# Altium footprint library ST-Microelectronics Footprints.PcbLib: 320 footprints (part 12 of 20)
Each footprint in its own frame and in the unit in brackets; x right, y up, seen from the top. Pads: shape width x height; smd on the part's side, far side on the other; paste and mask are expansions set on the pad; w line width, h text height; cw(c..) or ccw(c..) is an arc to the next point about the centre after c.
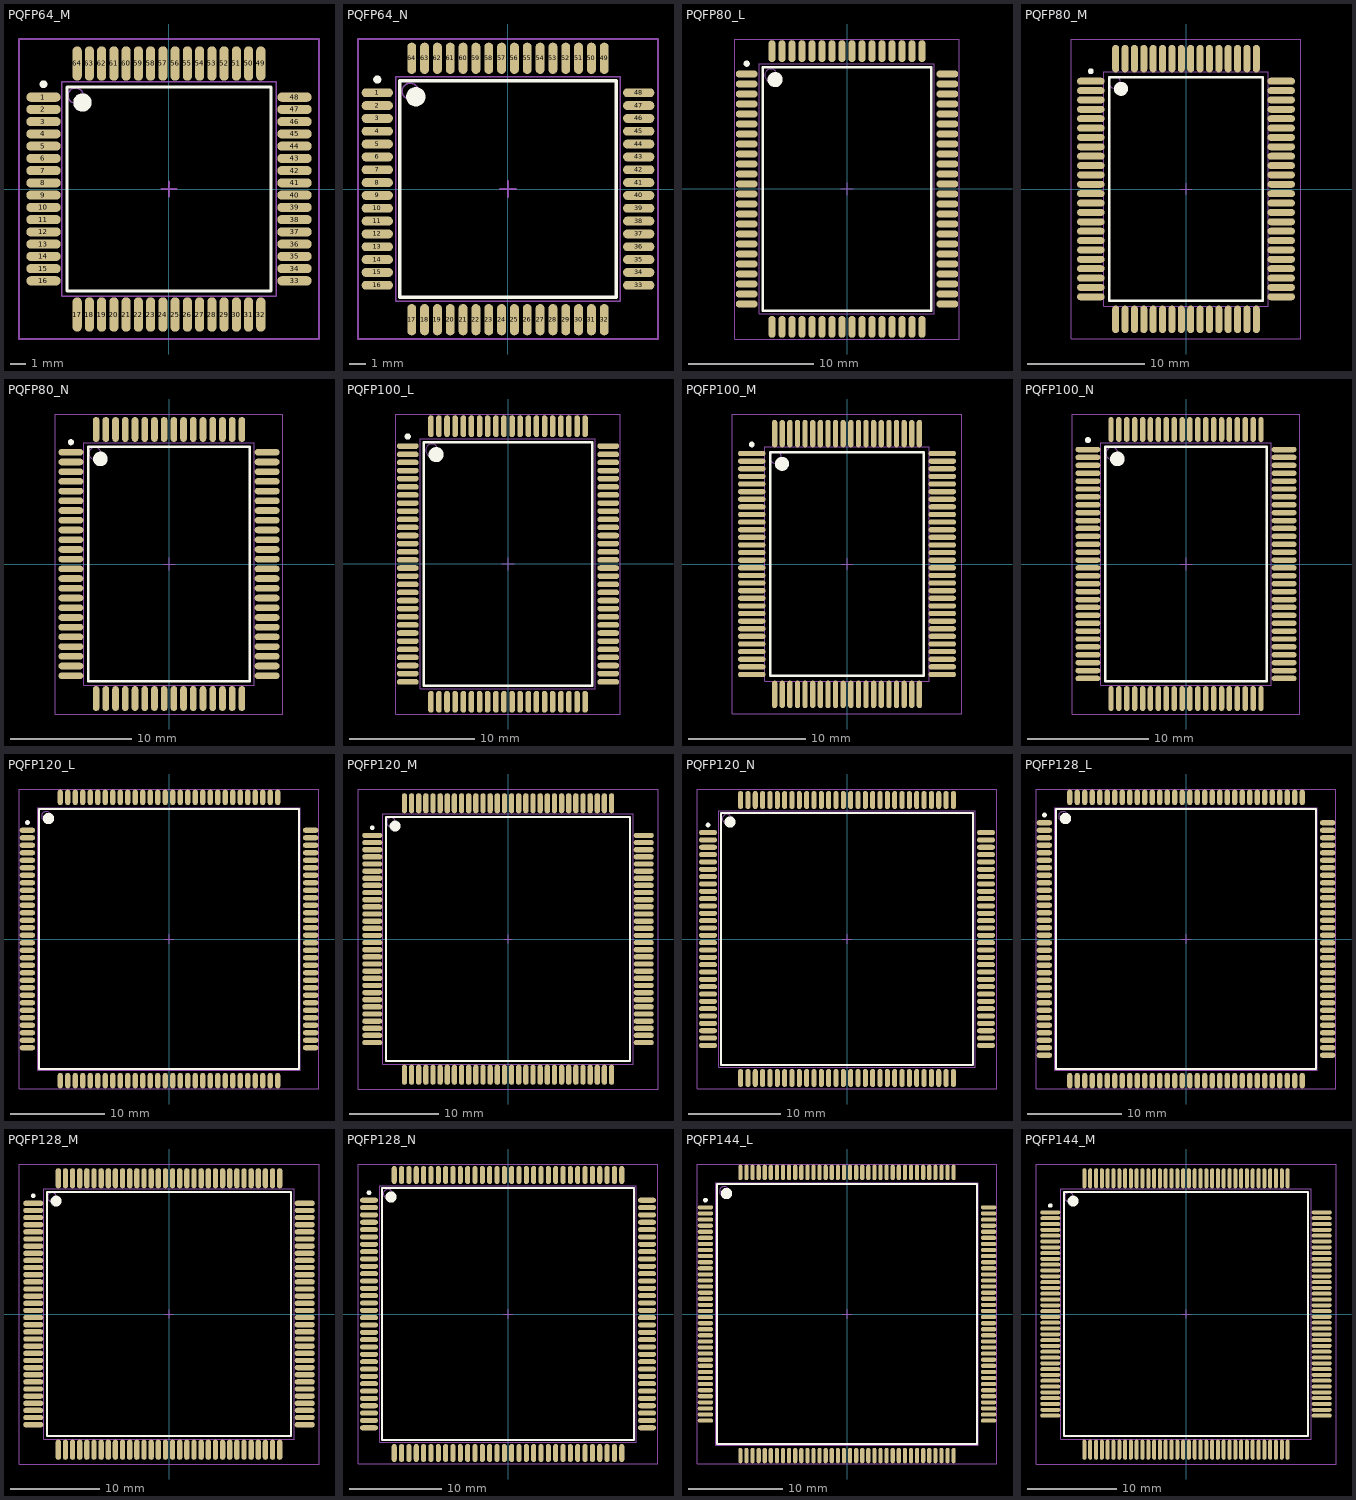
[diagram p11: the footprints below, top view; thin cyan lines are the x and y axes]

## PQFP64_M [mm] "64-Pin Plastic Quad Flat Pack 0.8 mm Pitch, IPC Low Density"
height 3.4
pads (64):
  oval 2.25x0.6 smd: 1(-8.2,6) 2(-8.2,5.2) 3(-8.2,4.4) 4(-8.2,3.6) 5(-8.2,2.8) 6(-8.2,2) 7(-8.2,1.2) 8(-8.2,0.4) 9(-8.2,-0.4) 10(-8.2,-1.2) 11(-8.2,-2) 12(-8.2,-2.8) 13(-8.2,-3.6) 14(-8.2,-4.4) 15(-8.2,-5.2) 16(-8.2,-6) 33(8.2,-6) 34(8.2,-5.2) 35(8.2,-4.4) 36(8.2,-3.6) 37(8.2,-2.8) 38(8.2,-2) 39(8.2,-1.2) 40(8.2,-0.4) 41(8.2,0.4) 42(8.2,1.2) 43(8.2,2) 44(8.2,2.8) 45(8.2,3.6) 46(8.2,4.4) 47(8.2,5.2) 48(8.2,6)
  oval 0.6x2.25 smd: 17(-6,-8.2) 18(-5.2,-8.2) 19(-4.4,-8.2) 20(-3.6,-8.2) 21(-2.8,-8.2) 22(-2,-8.2) 23(-1.2,-8.2) 24(-0.4,-8.2) 25(0.4,-8.2) 26(1.2,-8.2) 27(2,-8.2) 28(2.8,-8.2) 29(3.6,-8.2) 30(4.4,-8.2) 31(5.2,-8.2) 32(6,-8.2) 49(6,8.2) 50(5.2,8.2) 51(4.4,8.2) 52(3.6,8.2) 53(2.8,8.2) 54(2,8.2) 55(1.2,8.2) 56(0.4,8.2) 57(-0.4,8.2) 58(-1.2,8.2) 59(-2,8.2) 60(-2.8,8.2) 61(-3.6,8.2) 62(-4.4,8.2) 63(-5.2,8.2) 64(-6,8.2)
Top Overlay:
  circle w0.6: c-5.65,5.65 r0.3
  circle w0.25: c-8.2,6.85 r0.125
  lines w0.2: -6.65,-6.65 6.65,-6.65 6.65,6.65 -6.65,6.65 -6.65,-6.65
Mechanical 13:
  circle w0.1: c-6.1,6.1 r0.5
  lines w0.1: -7,-7 7,-7 7,7 -7,7 -7,-7
Mechanical 15:
  lines w0.1: -0.5,0 0.5,0 ; 0,-0.5 0,0.5 ; -9.8,-9.8 9.8,-9.8 9.8,9.8 -9.8,9.8 -9.8,-9.8
3D body: height 3.4, standoff 0, extent -7,-7 7,7

## PQFP64_N [mm] "64-Pin Plastic Quad Flat Pack 0.8 mm Pitch, IPC Medium Density"
height 3.4
pads (64):
  oval 1.95x0.55 smd: 1(-8.15,6) 2(-8.15,5.2) 3(-8.15,4.4) 4(-8.15,3.6) 5(-8.15,2.8) 6(-8.15,2) 7(-8.15,1.2) 8(-8.15,0.4) 9(-8.15,-0.4) 10(-8.15,-1.2) 11(-8.15,-2) 12(-8.15,-2.8) 13(-8.15,-3.6) 14(-8.15,-4.4) 15(-8.15,-5.2) 16(-8.15,-6) 33(8.15,-6) 34(8.15,-5.2) 35(8.15,-4.4) 36(8.15,-3.6) 37(8.15,-2.8) 38(8.15,-2) 39(8.15,-1.2) 40(8.15,-0.4) 41(8.15,0.4) 42(8.15,1.2) 43(8.15,2) 44(8.15,2.8) 45(8.15,3.6) 46(8.15,4.4) 47(8.15,5.2) 48(8.15,6)
  oval 0.55x1.95 smd: 17(-6,-8.15) 18(-5.2,-8.15) 19(-4.4,-8.15) 20(-3.6,-8.15) 21(-2.8,-8.15) 22(-2,-8.15) 23(-1.2,-8.15) 24(-0.4,-8.15) 25(0.4,-8.15) 26(1.2,-8.15) 27(2,-8.15) 28(2.8,-8.15) 29(3.6,-8.15) 30(4.4,-8.15) 31(5.2,-8.15) 32(6,-8.15) 49(6,8.15) 50(5.2,8.15) 51(4.4,8.15) 52(3.6,8.15) 53(2.8,8.15) 54(2,8.15) 55(1.2,8.15) 56(0.4,8.15) 57(-0.4,8.15) 58(-1.2,8.15) 59(-2,8.15) 60(-2.8,8.15) 61(-3.6,8.15) 62(-4.4,8.15) 63(-5.2,8.15) 64(-6,8.15)
Top Overlay:
  circle w0.6: c-5.75,5.75 r0.3
  circle w0.25: c-8.15,6.825 r0.125
  lines w0.2: -6.75,-6.75 6.75,-6.75 6.75,6.75 -6.75,6.75 -6.75,-6.75
Mechanical 13:
  circle w0.1: c-6.1,6.1 r0.5
  lines w0.1: -7,-7 7,-7 7,7 -7,7 -7,-7
Mechanical 15:
  lines w0.1: -0.5,0 0.5,0 ; 0,-0.5 0,0.5 ; -9.35,-9.35 9.35,-9.35 9.35,9.35 -9.35,9.35 -9.35,-9.35
3D body: height 3.4, standoff 0, extent -7,-7 7,7

## PQFP80_L [mm] "80-Pin Plastic Quad Flat Pack Rectangular 0.8 mm Pitch, IPC High Density"
height 3.4
pads (80):
  oval 1.75x0.55 smd: 1(-8.025,9.2) 2(-8.025,8.4) 3(-8.025,7.6) 4(-8.025,6.8) 5(-8.025,6) 6(-8.025,5.2) 7(-8.025,4.4) 8(-8.025,3.6) 9(-8.025,2.8) 10(-8.025,2) 11(-8.025,1.2) 12(-8.025,0.4) 13(-8.025,-0.4) 14(-8.025,-1.2) 15(-8.025,-2) 16(-8.025,-2.8) 17(-8.025,-3.6) 18(-8.025,-4.4) 19(-8.025,-5.2) 20(-8.025,-6) 21(-8.025,-6.8) 22(-8.025,-7.6) 23(-8.025,-8.4) 24(-8.025,-9.2) 41(8.025,-9.2) 42(8.025,-8.4) 43(8.025,-7.6) 44(8.025,-6.8) 45(8.025,-6) 46(8.025,-5.2) 47(8.025,-4.4) 48(8.025,-3.6) 49(8.025,-2.8) 50(8.025,-2) 51(8.025,-1.2) 52(8.025,-0.4) 53(8.025,0.4) 54(8.025,1.2) 55(8.025,2) 56(8.025,2.8) 57(8.025,3.6) 58(8.025,4.4) 59(8.025,5.2) 60(8.025,6) 61(8.025,6.8) 62(8.025,7.6) 63(8.025,8.4) 64(8.025,9.2)
  oval 0.55x1.75 smd: 25(-6,-11.025) 26(-5.2,-11.025) 27(-4.4,-11.025) 28(-3.6,-11.025) 29(-2.8,-11.025) 30(-2,-11.025) 31(-1.2,-11.025) 32(-0.4,-11.025) 33(0.4,-11.025) 34(1.2,-11.025) 35(2,-11.025) 36(2.8,-11.025) 37(3.6,-11.025) 38(4.4,-11.025) 39(5.2,-11.025) 40(6,-11.025) 65(6,11.025) 66(5.2,11.025) 67(4.4,11.025) 68(3.6,11.025) 69(2.8,11.025) 70(2,11.025) 71(1.2,11.025) 72(0.4,11.025) 73(-0.4,11.025) 74(-1.2,11.025) 75(-2,11.025) 76(-2.8,11.025) 77(-3.6,11.025) 78(-4.4,11.025) 79(-5.2,11.025) 80(-6,11.025)
Top Overlay:
  circle w0.6: c-5.75,8.75 r0.3
  circle w0.25: c-8.025,10.025 r0.125
  lines w0.2: -6.75,-9.75 6.75,-9.75 6.75,9.75 -6.75,9.75 -6.75,-9.75
Mechanical 13:
  circle w0.1: c-6.1,9.1 r0.5
  lines w0.1: -7,-10 7,-10 7,10 -7,10 -7,-10
Mechanical 15:
  lines w0.1: -0.5,0 0.5,0 ; 0,-0.5 0,0.5 ; -9,-12 9,-12 9,12 -9,12 -9,-12
3D body: height 3.4, standoff 0, extent -7,-10 7,10

## PQFP80_M [mm] "80-Pin Plastic Quad Flat Pack Rectangular 0.8 mm Pitch, IPC Low Density"
height 3.4
pads (80):
  oval 2.35x0.6 smd: 1(-8.125,9.2) 2(-8.125,8.4) 3(-8.125,7.6) 4(-8.125,6.8) 5(-8.125,6) 6(-8.125,5.2) 7(-8.125,4.4) 8(-8.125,3.6) 9(-8.125,2.8) 10(-8.125,2) 11(-8.125,1.2) 12(-8.125,0.4) 13(-8.125,-0.4) 14(-8.125,-1.2) 15(-8.125,-2) 16(-8.125,-2.8) 17(-8.125,-3.6) 18(-8.125,-4.4) 19(-8.125,-5.2) 20(-8.125,-6) 21(-8.125,-6.8) 22(-8.125,-7.6) 23(-8.125,-8.4) 24(-8.125,-9.2) 41(8.125,-9.2) 42(8.125,-8.4) 43(8.125,-7.6) 44(8.125,-6.8) 45(8.125,-6) 46(8.125,-5.2) 47(8.125,-4.4) 48(8.125,-3.6) 49(8.125,-2.8) 50(8.125,-2) 51(8.125,-1.2) 52(8.125,-0.4) 53(8.125,0.4) 54(8.125,1.2) 55(8.125,2) 56(8.125,2.8) 57(8.125,3.6) 58(8.125,4.4) 59(8.125,5.2) 60(8.125,6) 61(8.125,6.8) 62(8.125,7.6) 63(8.125,8.4) 64(8.125,9.2)
  oval 0.6x2.35 smd: 25(-6,-11.125) 26(-5.2,-11.125) 27(-4.4,-11.125) 28(-3.6,-11.125) 29(-2.8,-11.125) 30(-2,-11.125) 31(-1.2,-11.125) 32(-0.4,-11.125) 33(0.4,-11.125) 34(1.2,-11.125) 35(2,-11.125) 36(2.8,-11.125) 37(3.6,-11.125) 38(4.4,-11.125) 39(5.2,-11.125) 40(6,-11.125) 65(6,11.125) 66(5.2,11.125) 67(4.4,11.125) 68(3.6,11.125) 69(2.8,11.125) 70(2,11.125) 71(1.2,11.125) 72(0.4,11.125) 73(-0.4,11.125) 74(-1.2,11.125) 75(-2,11.125) 76(-2.8,11.125) 77(-3.6,11.125) 78(-4.4,11.125) 79(-5.2,11.125) 80(-6,11.125)
Top Overlay:
  circle w0.6: c-5.55,8.55 r0.3
  circle w0.25: c-8.125,10.05 r0.125
  lines w0.2: -6.55,-9.55 6.55,-9.55 6.55,9.55 -6.55,9.55 -6.55,-9.55
Mechanical 13:
  circle w0.1: c-6.1,9.1 r0.5
  lines w0.1: -7,-10 7,-10 7,10 -7,10 -7,-10
Mechanical 15:
  lines w0.1: -0.5,0 0.5,0 ; 0,-0.5 0,0.5 ; -9.8,-12.8 9.8,-12.8 9.8,12.8 -9.8,12.8 -9.8,-12.8
3D body: height 3.4, standoff 0, extent -7,-10 7,10

## PQFP80_N [mm] "80-Pin Plastic Quad Flat Pack Rectangular 0.8 mm Pitch, IPC Medium Density"
height 3.4
pads (80):
  oval 2.05x0.55 smd: 1(-8.075,9.2) 2(-8.075,8.4) 3(-8.075,7.6) 4(-8.075,6.8) 5(-8.075,6) 6(-8.075,5.2) 7(-8.075,4.4) 8(-8.075,3.6) 9(-8.075,2.8) 10(-8.075,2) 11(-8.075,1.2) 12(-8.075,0.4) 13(-8.075,-0.4) 14(-8.075,-1.2) 15(-8.075,-2) 16(-8.075,-2.8) 17(-8.075,-3.6) 18(-8.075,-4.4) 19(-8.075,-5.2) 20(-8.075,-6) 21(-8.075,-6.8) 22(-8.075,-7.6) 23(-8.075,-8.4) 24(-8.075,-9.2) 41(8.075,-9.2) 42(8.075,-8.4) 43(8.075,-7.6) 44(8.075,-6.8) 45(8.075,-6) 46(8.075,-5.2) 47(8.075,-4.4) 48(8.075,-3.6) 49(8.075,-2.8) 50(8.075,-2) 51(8.075,-1.2) 52(8.075,-0.4) 53(8.075,0.4) 54(8.075,1.2) 55(8.075,2) 56(8.075,2.8) 57(8.075,3.6) 58(8.075,4.4) 59(8.075,5.2) 60(8.075,6) 61(8.075,6.8) 62(8.075,7.6) 63(8.075,8.4) 64(8.075,9.2)
  oval 0.55x2.05 smd: 25(-6,-11.075) 26(-5.2,-11.075) 27(-4.4,-11.075) 28(-3.6,-11.075) 29(-2.8,-11.075) 30(-2,-11.075) 31(-1.2,-11.075) 32(-0.4,-11.075) 33(0.4,-11.075) 34(1.2,-11.075) 35(2,-11.075) 36(2.8,-11.075) 37(3.6,-11.075) 38(4.4,-11.075) 39(5.2,-11.075) 40(6,-11.075) 65(6,11.075) 66(5.2,11.075) 67(4.4,11.075) 68(3.6,11.075) 69(2.8,11.075) 70(2,11.075) 71(1.2,11.075) 72(0.4,11.075) 73(-0.4,11.075) 74(-1.2,11.075) 75(-2,11.075) 76(-2.8,11.075) 77(-3.6,11.075) 78(-4.4,11.075) 79(-5.2,11.075) 80(-6,11.075)
Top Overlay:
  circle w0.6: c-5.65,8.65 r0.3
  circle w0.25: c-8.075,10.025 r0.125
  lines w0.2: -6.65,-9.65 6.65,-9.65 6.65,9.65 -6.65,9.65 -6.65,-9.65
Mechanical 13:
  circle w0.1: c-6.1,9.1 r0.5
  lines w0.1: -7,-10 7,-10 7,10 -7,10 -7,-10
Mechanical 15:
  lines w0.1: -0.5,0 0.5,0 ; 0,-0.5 0,0.5 ; -9.35,-12.35 9.35,-12.35 9.35,12.35 -9.35,12.35 -9.35,-12.35
3D body: height 3.4, standoff 0, extent -7,-10 7,10

## PQFP100_L [mm] "100-Pin Plastic Quad Flat Pack Rectangular 0.65 mm Pitch, IPC High Density"
height 3.4
pads (100):
  oval 1.75x0.45 smd: 1(-8.025,9.425) 2(-8.025,8.775) 3(-8.025,8.125) 4(-8.025,7.475) 5(-8.025,6.825) 6(-8.025,6.175) 7(-8.025,5.525) 8(-8.025,4.875) 9(-8.025,4.225) 10(-8.025,3.575) 11(-8.025,2.925) 12(-8.025,2.275) 13(-8.025,1.625) 14(-8.025,0.975) 15(-8.025,0.325) 16(-8.025,-0.325) 17(-8.025,-0.975) 18(-8.025,-1.625) 19(-8.025,-2.275) 20(-8.025,-2.925) 21(-8.025,-3.575) 22(-8.025,-4.225) 23(-8.025,-4.875) 24(-8.025,-5.525) 25(-8.025,-6.175) 26(-8.025,-6.825) 27(-8.025,-7.475) 28(-8.025,-8.125) 29(-8.025,-8.775) 30(-8.025,-9.425) 51(8.025,-9.425) 52(8.025,-8.775) 53(8.025,-8.125) 54(8.025,-7.475) 55(8.025,-6.825) 56(8.025,-6.175) 57(8.025,-5.525) 58(8.025,-4.875) 59(8.025,-4.225) 60(8.025,-3.575) 61(8.025,-2.925) 62(8.025,-2.275) 63(8.025,-1.625) 64(8.025,-0.975) 65(8.025,-0.325) 66(8.025,0.325) 67(8.025,0.975) 68(8.025,1.625) 69(8.025,2.275) 70(8.025,2.925) 71(8.025,3.575) 72(8.025,4.225) 73(8.025,4.875) 74(8.025,5.525) 75(8.025,6.175) 76(8.025,6.825) 77(8.025,7.475) 78(8.025,8.125) 79(8.025,8.775) 80(8.025,9.425)
  oval 0.45x1.75 smd: 31(-6.175,-11.025) 32(-5.525,-11.025) 33(-4.875,-11.025) 34(-4.225,-11.025) 35(-3.575,-11.025) 36(-2.925,-11.025) 37(-2.275,-11.025) 38(-1.625,-11.025) 39(-0.975,-11.025) 40(-0.325,-11.025) 41(0.325,-11.025) 42(0.975,-11.025) 43(1.625,-11.025) 44(2.275,-11.025) 45(2.925,-11.025) 46(3.575,-11.025) 47(4.225,-11.025) 48(4.875,-11.025) 49(5.525,-11.025) 50(6.175,-11.025) 81(6.175,11.025) 82(5.525,11.025) 83(4.875,11.025) 84(4.225,11.025) 85(3.575,11.025) 86(2.925,11.025) 87(2.275,11.025) 88(1.625,11.025) 89(0.975,11.025) 90(0.325,11.025) 91(-0.325,11.025) 92(-0.975,11.025) 93(-1.625,11.025) 94(-2.275,11.025) 95(-2.925,11.025) 96(-3.575,11.025) 97(-4.225,11.025) 98(-4.875,11.025) 99(-5.525,11.025) 100(-6.175,11.025)
Top Overlay:
  circle w0.6: c-5.75,8.75 r0.3
  circle w0.25: c-8.025,10.2 r0.125
  lines w0.2: -6.75,-9.75 6.75,-9.75 6.75,9.75 -6.75,9.75 -6.75,-9.75
Mechanical 13:
  circle w0.1: c-6.1,9.1 r0.5
  lines w0.1: -7,-10 7,-10 7,10 -7,10 -7,-10
Mechanical 15:
  lines w0.1: -0.5,0 0.5,0 ; 0,-0.5 0,0.5 ; -9,-12 9,-12 9,12 -9,12 -9,-12
3D body: height 3.4, standoff 0, extent -7,-10 7,10

## PQFP100_M [mm] "100-Pin Plastic Quad Flat Pack Rectangular 0.65 mm Pitch, IPC Low Density"
height 3.4
pads (100):
  oval 2.35x0.45 smd: 1(-8.125,9.425) 2(-8.125,8.775) 3(-8.125,8.125) 4(-8.125,7.475) 5(-8.125,6.825) 6(-8.125,6.175) 7(-8.125,5.525) 8(-8.125,4.875) 9(-8.125,4.225) 10(-8.125,3.575) 11(-8.125,2.925) 12(-8.125,2.275) 13(-8.125,1.625) 14(-8.125,0.975) 15(-8.125,0.325) 16(-8.125,-0.325) 17(-8.125,-0.975) 18(-8.125,-1.625) 19(-8.125,-2.275) 20(-8.125,-2.925) 21(-8.125,-3.575) 22(-8.125,-4.225) 23(-8.125,-4.875) 24(-8.125,-5.525) 25(-8.125,-6.175) 26(-8.125,-6.825) 27(-8.125,-7.475) 28(-8.125,-8.125) 29(-8.125,-8.775) 30(-8.125,-9.425) 51(8.125,-9.425) 52(8.125,-8.775) 53(8.125,-8.125) 54(8.125,-7.475) 55(8.125,-6.825) 56(8.125,-6.175) 57(8.125,-5.525) 58(8.125,-4.875) 59(8.125,-4.225) 60(8.125,-3.575) 61(8.125,-2.925) 62(8.125,-2.275) 63(8.125,-1.625) 64(8.125,-0.975) 65(8.125,-0.325) 66(8.125,0.325) 67(8.125,0.975) 68(8.125,1.625) 69(8.125,2.275) 70(8.125,2.925) 71(8.125,3.575) 72(8.125,4.225) 73(8.125,4.875) 74(8.125,5.525) 75(8.125,6.175) 76(8.125,6.825) 77(8.125,7.475) 78(8.125,8.125) 79(8.125,8.775) 80(8.125,9.425)
  oval 0.45x2.35 smd: 31(-6.175,-11.125) 32(-5.525,-11.125) 33(-4.875,-11.125) 34(-4.225,-11.125) 35(-3.575,-11.125) 36(-2.925,-11.125) 37(-2.275,-11.125) 38(-1.625,-11.125) 39(-0.975,-11.125) 40(-0.325,-11.125) 41(0.325,-11.125) 42(0.975,-11.125) 43(1.625,-11.125) 44(2.275,-11.125) 45(2.925,-11.125) 46(3.575,-11.125) 47(4.225,-11.125) 48(4.875,-11.125) 49(5.525,-11.125) 50(6.175,-11.125) 81(6.175,11.125) 82(5.525,11.125) 83(4.875,11.125) 84(4.225,11.125) 85(3.575,11.125) 86(2.925,11.125) 87(2.275,11.125) 88(1.625,11.125) 89(0.975,11.125) 90(0.325,11.125) 91(-0.325,11.125) 92(-0.975,11.125) 93(-1.625,11.125) 94(-2.275,11.125) 95(-2.925,11.125) 96(-3.575,11.125) 97(-4.225,11.125) 98(-4.875,11.125) 99(-5.525,11.125) 100(-6.175,11.125)
Top Overlay:
  circle w0.6: c-5.55,8.55 r0.3
  circle w0.25: c-8.125,10.2 r0.125
  lines w0.2: -6.55,-9.55 6.55,-9.55 6.55,9.55 -6.55,9.55 -6.55,-9.55
Mechanical 13:
  circle w0.1: c-6.1,9.1 r0.5
  lines w0.1: -7,-10 7,-10 7,10 -7,10 -7,-10
Mechanical 15:
  lines w0.1: -0.5,0 0.5,0 ; 0,-0.5 0,0.5 ; -9.8,-12.8 9.8,-12.8 9.8,12.8 -9.8,12.8 -9.8,-12.8
3D body: height 3.4, standoff 0, extent -7,-10 7,10

## PQFP100_N [mm] "100-Pin Plastic Quad Flat Pack Rectangular 0.65 mm Pitch, IPC Medium Density"
height 3.4
pads (100):
  oval 2.05x0.45 smd: 1(-8.075,9.425) 2(-8.075,8.775) 3(-8.075,8.125) 4(-8.075,7.475) 5(-8.075,6.825) 6(-8.075,6.175) 7(-8.075,5.525) 8(-8.075,4.875) 9(-8.075,4.225) 10(-8.075,3.575) 11(-8.075,2.925) 12(-8.075,2.275) 13(-8.075,1.625) 14(-8.075,0.975) 15(-8.075,0.325) 16(-8.075,-0.325) 17(-8.075,-0.975) 18(-8.075,-1.625) 19(-8.075,-2.275) 20(-8.075,-2.925) 21(-8.075,-3.575) 22(-8.075,-4.225) 23(-8.075,-4.875) 24(-8.075,-5.525) 25(-8.075,-6.175) 26(-8.075,-6.825) 27(-8.075,-7.475) 28(-8.075,-8.125) 29(-8.075,-8.775) 30(-8.075,-9.425) 51(8.075,-9.425) 52(8.075,-8.775) 53(8.075,-8.125) 54(8.075,-7.475) 55(8.075,-6.825) 56(8.075,-6.175) 57(8.075,-5.525) 58(8.075,-4.875) 59(8.075,-4.225) 60(8.075,-3.575) 61(8.075,-2.925) 62(8.075,-2.275) 63(8.075,-1.625) 64(8.075,-0.975) 65(8.075,-0.325) 66(8.075,0.325) 67(8.075,0.975) 68(8.075,1.625) 69(8.075,2.275) 70(8.075,2.925) 71(8.075,3.575) 72(8.075,4.225) 73(8.075,4.875) 74(8.075,5.525) 75(8.075,6.175) 76(8.075,6.825) 77(8.075,7.475) 78(8.075,8.125) 79(8.075,8.775) 80(8.075,9.425)
  oval 0.45x2.05 smd: 31(-6.175,-11.075) 32(-5.525,-11.075) 33(-4.875,-11.075) 34(-4.225,-11.075) 35(-3.575,-11.075) 36(-2.925,-11.075) 37(-2.275,-11.075) 38(-1.625,-11.075) 39(-0.975,-11.075) 40(-0.325,-11.075) 41(0.325,-11.075) 42(0.975,-11.075) 43(1.625,-11.075) 44(2.275,-11.075) 45(2.925,-11.075) 46(3.575,-11.075) 47(4.225,-11.075) 48(4.875,-11.075) 49(5.525,-11.075) 50(6.175,-11.075) 81(6.175,11.075) 82(5.525,11.075) 83(4.875,11.075) 84(4.225,11.075) 85(3.575,11.075) 86(2.925,11.075) 87(2.275,11.075) 88(1.625,11.075) 89(0.975,11.075) 90(0.325,11.075) 91(-0.325,11.075) 92(-0.975,11.075) 93(-1.625,11.075) 94(-2.275,11.075) 95(-2.925,11.075) 96(-3.575,11.075) 97(-4.225,11.075) 98(-4.875,11.075) 99(-5.525,11.075) 100(-6.175,11.075)
Top Overlay:
  circle w0.6: c-5.65,8.65 r0.3
  circle w0.25: c-8.075,10.2 r0.125
  lines w0.2: -6.65,-9.65 6.65,-9.65 6.65,9.65 -6.65,9.65 -6.65,-9.65
Mechanical 13:
  circle w0.1: c-6.1,9.1 r0.5
  lines w0.1: -7,-10 7,-10 7,10 -7,10 -7,-10
Mechanical 15:
  lines w0.1: -0.5,0 0.5,0 ; 0,-0.5 0,0.5 ; -9.35,-12.35 9.35,-12.35 9.35,12.35 -9.35,12.35 -9.35,-12.35
3D body: height 3.4, standoff 0, extent -7,-10 7,10

## PQFP120_L [mm] "120-Pin Plastic Quad Flat Pack 0.8 mm Pitch, IPC High Density"
height 4.07
pads (120):
  oval 1.65x0.55 smd: 1(-15.1,11.6) 2(-15.1,10.8) 3(-15.1,10) 4(-15.1,9.2) 5(-15.1,8.4) 6(-15.1,7.6) 7(-15.1,6.8) 8(-15.1,6) 9(-15.1,5.2) 10(-15.1,4.4) 11(-15.1,3.6) 12(-15.1,2.8) 13(-15.1,2) 14(-15.1,1.2) 15(-15.1,0.4) 16(-15.1,-0.4) 17(-15.1,-1.2) 18(-15.1,-2) 19(-15.1,-2.8) 20(-15.1,-3.6) 21(-15.1,-4.4) 22(-15.1,-5.2) 23(-15.1,-6) 24(-15.1,-6.8) 25(-15.1,-7.6) 26(-15.1,-8.4) 27(-15.1,-9.2) 28(-15.1,-10) 29(-15.1,-10.8) 30(-15.1,-11.6) 61(15.1,-11.6) 62(15.1,-10.8) 63(15.1,-10) 64(15.1,-9.2) 65(15.1,-8.4) 66(15.1,-7.6) 67(15.1,-6.8) 68(15.1,-6) 69(15.1,-5.2) 70(15.1,-4.4) 71(15.1,-3.6) 72(15.1,-2.8) 73(15.1,-2) 74(15.1,-1.2) 75(15.1,-0.4) 76(15.1,0.4) 77(15.1,1.2) 78(15.1,2) 79(15.1,2.8) 80(15.1,3.6) 81(15.1,4.4) 82(15.1,5.2) 83(15.1,6) 84(15.1,6.8) 85(15.1,7.6) 86(15.1,8.4) 87(15.1,9.2) 88(15.1,10) 89(15.1,10.8) 90(15.1,11.6)
  oval 0.55x1.65 smd: 31(-11.6,-15.1) 32(-10.8,-15.1) 33(-10,-15.1) 34(-9.2,-15.1) 35(-8.4,-15.1) 36(-7.6,-15.1) 37(-6.8,-15.1) 38(-6,-15.1) 39(-5.2,-15.1) 40(-4.4,-15.1) 41(-3.6,-15.1) 42(-2.8,-15.1) 43(-2,-15.1) 44(-1.2,-15.1) 45(-0.4,-15.1) 46(0.4,-15.1) 47(1.2,-15.1) 48(2,-15.1) 49(2.8,-15.1) 50(3.6,-15.1) 51(4.4,-15.1) 52(5.2,-15.1) 53(6,-15.1) 54(6.8,-15.1) 55(7.6,-15.1) 56(8.4,-15.1) 57(9.2,-15.1) 58(10,-15.1) 59(10.8,-15.1) 60(11.6,-15.1) 91(11.6,15.1) 92(10.8,15.1) 93(10,15.1) 94(9.2,15.1) 95(8.4,15.1) 96(7.6,15.1) 97(6.8,15.1) 98(6,15.1) 99(5.2,15.1) 100(4.4,15.1) 101(3.6,15.1) 102(2.8,15.1) 103(2,15.1) 104(1.2,15.1) 105(0.4,15.1) 106(-0.4,15.1) 107(-1.2,15.1) 108(-2,15.1) 109(-2.8,15.1) 110(-3.6,15.1) 111(-4.4,15.1) 112(-5.2,15.1) 113(-6,15.1) 114(-6.8,15.1) 115(-7.6,15.1) 116(-8.4,15.1) 117(-9.2,15.1) 118(-10,15.1) 119(-10.8,15.1) 120(-11.6,15.1)
Top Overlay:
  circle w0.6: c-12.85,12.85 r0.3
  circle w0.25: c-15.1,12.425 r0.125
  lines w0.2: -13.85,-13.85 13.85,-13.85 13.85,13.85 -13.85,13.85 -13.85,-13.85
Mechanical 13:
  circle w0.1: c-13.1,13.1 r0.5
  lines w0.1: -14,-14 14,-14 14,14 -14,14 -14,-14
Mechanical 15:
  lines w0.1: -0.5,0 0.5,0 ; 0,-0.5 0,0.5 ; -16,-16 16,-16 16,16 -16,16 -16,-16
3D body: height 4.07, standoff 0, extent -14,-14 14,14

## PQFP120_M [mm] "120-Pin Plastic Quad Flat Pack 0.8 mm Pitch, IPC Low Density"
height 4.07
pads (120):
  oval 2.25x0.6 smd: 1(-15.2,11.6) 2(-15.2,10.8) 3(-15.2,10) 4(-15.2,9.2) 5(-15.2,8.4) 6(-15.2,7.6) 7(-15.2,6.8) 8(-15.2,6) 9(-15.2,5.2) 10(-15.2,4.4) 11(-15.2,3.6) 12(-15.2,2.8) 13(-15.2,2) 14(-15.2,1.2) 15(-15.2,0.4) 16(-15.2,-0.4) 17(-15.2,-1.2) 18(-15.2,-2) 19(-15.2,-2.8) 20(-15.2,-3.6) 21(-15.2,-4.4) 22(-15.2,-5.2) 23(-15.2,-6) 24(-15.2,-6.8) 25(-15.2,-7.6) 26(-15.2,-8.4) 27(-15.2,-9.2) 28(-15.2,-10) 29(-15.2,-10.8) 30(-15.2,-11.6) 61(15.2,-11.6) 62(15.2,-10.8) 63(15.2,-10) 64(15.2,-9.2) 65(15.2,-8.4) 66(15.2,-7.6) 67(15.2,-6.8) 68(15.2,-6) 69(15.2,-5.2) 70(15.2,-4.4) 71(15.2,-3.6) 72(15.2,-2.8) 73(15.2,-2) 74(15.2,-1.2) 75(15.2,-0.4) 76(15.2,0.4) 77(15.2,1.2) 78(15.2,2) 79(15.2,2.8) 80(15.2,3.6) 81(15.2,4.4) 82(15.2,5.2) 83(15.2,6) 84(15.2,6.8) 85(15.2,7.6) 86(15.2,8.4) 87(15.2,9.2) 88(15.2,10) 89(15.2,10.8) 90(15.2,11.6)
  oval 0.6x2.25 smd: 31(-11.6,-15.2) 32(-10.8,-15.2) 33(-10,-15.2) 34(-9.2,-15.2) 35(-8.4,-15.2) 36(-7.6,-15.2) 37(-6.8,-15.2) 38(-6,-15.2) 39(-5.2,-15.2) 40(-4.4,-15.2) 41(-3.6,-15.2) 42(-2.8,-15.2) 43(-2,-15.2) 44(-1.2,-15.2) 45(-0.4,-15.2) 46(0.4,-15.2) 47(1.2,-15.2) 48(2,-15.2) 49(2.8,-15.2) 50(3.6,-15.2) 51(4.4,-15.2) 52(5.2,-15.2) 53(6,-15.2) 54(6.8,-15.2) 55(7.6,-15.2) 56(8.4,-15.2) 57(9.2,-15.2) 58(10,-15.2) 59(10.8,-15.2) 60(11.6,-15.2) 91(11.6,15.2) 92(10.8,15.2) 93(10,15.2) 94(9.2,15.2) 95(8.4,15.2) 96(7.6,15.2) 97(6.8,15.2) 98(6,15.2) 99(5.2,15.2) 100(4.4,15.2) 101(3.6,15.2) 102(2.8,15.2) 103(2,15.2) 104(1.2,15.2) 105(0.4,15.2) 106(-0.4,15.2) 107(-1.2,15.2) 108(-2,15.2) 109(-2.8,15.2) 110(-3.6,15.2) 111(-4.4,15.2) 112(-5.2,15.2) 113(-6,15.2) 114(-6.8,15.2) 115(-7.6,15.2) 116(-8.4,15.2) 117(-9.2,15.2) 118(-10,15.2) 119(-10.8,15.2) 120(-11.6,15.2)
Top Overlay:
  circle w0.6: c-12.65,12.65 r0.3
  circle w0.25: c-15.2,12.45 r0.125
  lines w0.2: -13.65,-13.65 13.65,-13.65 13.65,13.65 -13.65,13.65 -13.65,-13.65
Mechanical 13:
  circle w0.1: c-13.1,13.1 r0.5
  lines w0.1: -14,-14 14,-14 14,14 -14,14 -14,-14
Mechanical 15:
  lines w0.1: -0.5,0 0.5,0 ; 0,-0.5 0,0.5 ; -16.8,-16.8 16.8,-16.8 16.8,16.8 -16.8,16.8 -16.8,-16.8
3D body: height 4.07, standoff 0, extent -14,-14 14,14

## PQFP120_N [mm] "120-Pin Plastic Quad Flat Pack 0.8 mm Pitch, IPC Medium Density"
height 4.07
pads (120):
  oval 1.95x0.55 smd: 1(-15.15,11.6) 2(-15.15,10.8) 3(-15.15,10) 4(-15.15,9.2) 5(-15.15,8.4) 6(-15.15,7.6) 7(-15.15,6.8) 8(-15.15,6) 9(-15.15,5.2) 10(-15.15,4.4) 11(-15.15,3.6) 12(-15.15,2.8) 13(-15.15,2) 14(-15.15,1.2) 15(-15.15,0.4) 16(-15.15,-0.4) 17(-15.15,-1.2) 18(-15.15,-2) 19(-15.15,-2.8) 20(-15.15,-3.6) 21(-15.15,-4.4) 22(-15.15,-5.2) 23(-15.15,-6) 24(-15.15,-6.8) 25(-15.15,-7.6) 26(-15.15,-8.4) 27(-15.15,-9.2) 28(-15.15,-10) 29(-15.15,-10.8) 30(-15.15,-11.6) 61(15.15,-11.6) 62(15.15,-10.8) 63(15.15,-10) 64(15.15,-9.2) 65(15.15,-8.4) 66(15.15,-7.6) 67(15.15,-6.8) 68(15.15,-6) 69(15.15,-5.2) 70(15.15,-4.4) 71(15.15,-3.6) 72(15.15,-2.8) 73(15.15,-2) 74(15.15,-1.2) 75(15.15,-0.4) 76(15.15,0.4) 77(15.15,1.2) 78(15.15,2) 79(15.15,2.8) 80(15.15,3.6) 81(15.15,4.4) 82(15.15,5.2) 83(15.15,6) 84(15.15,6.8) 85(15.15,7.6) 86(15.15,8.4) 87(15.15,9.2) 88(15.15,10) 89(15.15,10.8) 90(15.15,11.6)
  oval 0.55x1.95 smd: 31(-11.6,-15.15) 32(-10.8,-15.15) 33(-10,-15.15) 34(-9.2,-15.15) 35(-8.4,-15.15) 36(-7.6,-15.15) 37(-6.8,-15.15) 38(-6,-15.15) 39(-5.2,-15.15) 40(-4.4,-15.15) 41(-3.6,-15.15) 42(-2.8,-15.15) 43(-2,-15.15) 44(-1.2,-15.15) 45(-0.4,-15.15) 46(0.4,-15.15) 47(1.2,-15.15) 48(2,-15.15) 49(2.8,-15.15) 50(3.6,-15.15) 51(4.4,-15.15) 52(5.2,-15.15) 53(6,-15.15) 54(6.8,-15.15) 55(7.6,-15.15) 56(8.4,-15.15) 57(9.2,-15.15) 58(10,-15.15) 59(10.8,-15.15) 60(11.6,-15.15) 91(11.6,15.15) 92(10.8,15.15) 93(10,15.15) 94(9.2,15.15) 95(8.4,15.15) 96(7.6,15.15) 97(6.8,15.15) 98(6,15.15) 99(5.2,15.15) 100(4.4,15.15) 101(3.6,15.15) 102(2.8,15.15) 103(2,15.15) 104(1.2,15.15) 105(0.4,15.15) 106(-0.4,15.15) 107(-1.2,15.15) 108(-2,15.15) 109(-2.8,15.15) 110(-3.6,15.15) 111(-4.4,15.15) 112(-5.2,15.15) 113(-6,15.15) 114(-6.8,15.15) 115(-7.6,15.15) 116(-8.4,15.15) 117(-9.2,15.15) 118(-10,15.15) 119(-10.8,15.15) 120(-11.6,15.15)
Top Overlay:
  circle w0.6: c-12.75,12.75 r0.3
  circle w0.25: c-15.15,12.425 r0.125
  lines w0.2: -13.75,-13.75 13.75,-13.75 13.75,13.75 -13.75,13.75 -13.75,-13.75
Mechanical 13:
  circle w0.1: c-13.1,13.1 r0.5
  lines w0.1: -14,-14 14,-14 14,14 -14,14 -14,-14
Mechanical 15:
  lines w0.1: -0.5,0 0.5,0 ; 0,-0.5 0,0.5 ; -16.35,-16.35 16.35,-16.35 16.35,16.35 -16.35,16.35 -16.35,-16.35
3D body: height 4.07, standoff 0, extent -14,-14 14,14

## PQFP128_L [mm] "128-Pin Plastic Quad Flat Pack 0.8 mm Pitch, IPC High Density"
height 4.07
pads (128):
  oval 1.65x0.55 smd: 1(-15.1,12.4) 2(-15.1,11.6) 3(-15.1,10.8) 4(-15.1,10) 5(-15.1,9.2) 6(-15.1,8.4) 7(-15.1,7.6) 8(-15.1,6.8) 9(-15.1,6) 10(-15.1,5.2) 11(-15.1,4.4) 12(-15.1,3.6) 13(-15.1,2.8) 14(-15.1,2) 15(-15.1,1.2) 16(-15.1,0.4) 17(-15.1,-0.4) 18(-15.1,-1.2) 19(-15.1,-2) 20(-15.1,-2.8) 21(-15.1,-3.6) 22(-15.1,-4.4) 23(-15.1,-5.2) 24(-15.1,-6) 25(-15.1,-6.8) 26(-15.1,-7.6) 27(-15.1,-8.4) 28(-15.1,-9.2) 29(-15.1,-10) 30(-15.1,-10.8) 31(-15.1,-11.6) 32(-15.1,-12.4) 65(15.1,-12.4) 66(15.1,-11.6) 67(15.1,-10.8) 68(15.1,-10) 69(15.1,-9.2) 70(15.1,-8.4) 71(15.1,-7.6) 72(15.1,-6.8) 73(15.1,-6) 74(15.1,-5.2) 75(15.1,-4.4) 76(15.1,-3.6) 77(15.1,-2.8) 78(15.1,-2) 79(15.1,-1.2) 80(15.1,-0.4) 81(15.1,0.4) 82(15.1,1.2) 83(15.1,2) 84(15.1,2.8) 85(15.1,3.6) 86(15.1,4.4) 87(15.1,5.2) 88(15.1,6) 89(15.1,6.8) 90(15.1,7.6) 91(15.1,8.4) 92(15.1,9.2) 93(15.1,10) 94(15.1,10.8) 95(15.1,11.6) 96(15.1,12.4)
  oval 0.55x1.65 smd: 33(-12.4,-15.1) 34(-11.6,-15.1) 35(-10.8,-15.1) 36(-10,-15.1) 37(-9.2,-15.1) 38(-8.4,-15.1) 39(-7.6,-15.1) 40(-6.8,-15.1) 41(-6,-15.1) 42(-5.2,-15.1) 43(-4.4,-15.1) 44(-3.6,-15.1) 45(-2.8,-15.1) 46(-2,-15.1) 47(-1.2,-15.1) 48(-0.4,-15.1) 49(0.4,-15.1) 50(1.2,-15.1) 51(2,-15.1) 52(2.8,-15.1) 53(3.6,-15.1) 54(4.4,-15.1) 55(5.2,-15.1) 56(6,-15.1) 57(6.8,-15.1) 58(7.6,-15.1) 59(8.4,-15.1) 60(9.2,-15.1) 61(10,-15.1) 62(10.8,-15.1) 63(11.6,-15.1) 64(12.4,-15.1) 97(12.4,15.1) 98(11.6,15.1) 99(10.8,15.1) 100(10,15.1) 101(9.2,15.1) 102(8.4,15.1) 103(7.6,15.1) 104(6.8,15.1) 105(6,15.1) 106(5.2,15.1) 107(4.4,15.1) 108(3.6,15.1) 109(2.8,15.1) 110(2,15.1) 111(1.2,15.1) 112(0.4,15.1) 113(-0.4,15.1) 114(-1.2,15.1) 115(-2,15.1) 116(-2.8,15.1) 117(-3.6,15.1) 118(-4.4,15.1) 119(-5.2,15.1) 120(-6,15.1) 121(-6.8,15.1) 122(-7.6,15.1) 123(-8.4,15.1) 124(-9.2,15.1) 125(-10,15.1) 126(-10.8,15.1) 127(-11.6,15.1) 128(-12.4,15.1)
Top Overlay:
  circle w0.6: c-12.85,12.85 r0.3
  circle w0.25: c-15.1,13.225 r0.125
  lines w0.2: -13.85,-13.85 13.85,-13.85 13.85,13.85 -13.85,13.85 -13.85,-13.85
Mechanical 13:
  circle w0.1: c-13.1,13.1 r0.5
  lines w0.1: -14,-14 14,-14 14,14 -14,14 -14,-14
Mechanical 15:
  lines w0.1: -0.5,0 0.5,0 ; 0,-0.5 0,0.5 ; -16,-16 16,-16 16,16 -16,16 -16,-16
3D body: height 4.07, standoff 0, extent -14,-14 14,14

## PQFP128_M [mm] "128-Pin Plastic Quad Flat Pack 0.8 mm Pitch, IPC Low Density"
height 4.07
pads (128):
  oval 2.25x0.6 smd: 1(-15.2,12.4) 2(-15.2,11.6) 3(-15.2,10.8) 4(-15.2,10) 5(-15.2,9.2) 6(-15.2,8.4) 7(-15.2,7.6) 8(-15.2,6.8) 9(-15.2,6) 10(-15.2,5.2) 11(-15.2,4.4) 12(-15.2,3.6) 13(-15.2,2.8) 14(-15.2,2) 15(-15.2,1.2) 16(-15.2,0.4) 17(-15.2,-0.4) 18(-15.2,-1.2) 19(-15.2,-2) 20(-15.2,-2.8) 21(-15.2,-3.6) 22(-15.2,-4.4) 23(-15.2,-5.2) 24(-15.2,-6) 25(-15.2,-6.8) 26(-15.2,-7.6) 27(-15.2,-8.4) 28(-15.2,-9.2) 29(-15.2,-10) 30(-15.2,-10.8) 31(-15.2,-11.6) 32(-15.2,-12.4) 65(15.2,-12.4) 66(15.2,-11.6) 67(15.2,-10.8) 68(15.2,-10) 69(15.2,-9.2) 70(15.2,-8.4) 71(15.2,-7.6) 72(15.2,-6.8) 73(15.2,-6) 74(15.2,-5.2) 75(15.2,-4.4) 76(15.2,-3.6) 77(15.2,-2.8) 78(15.2,-2) 79(15.2,-1.2) 80(15.2,-0.4) 81(15.2,0.4) 82(15.2,1.2) 83(15.2,2) 84(15.2,2.8) 85(15.2,3.6) 86(15.2,4.4) 87(15.2,5.2) 88(15.2,6) 89(15.2,6.8) 90(15.2,7.6) 91(15.2,8.4) 92(15.2,9.2) 93(15.2,10) 94(15.2,10.8) 95(15.2,11.6) 96(15.2,12.4)
  oval 0.6x2.25 smd: 33(-12.4,-15.2) 34(-11.6,-15.2) 35(-10.8,-15.2) 36(-10,-15.2) 37(-9.2,-15.2) 38(-8.4,-15.2) 39(-7.6,-15.2) 40(-6.8,-15.2) 41(-6,-15.2) 42(-5.2,-15.2) 43(-4.4,-15.2) 44(-3.6,-15.2) 45(-2.8,-15.2) 46(-2,-15.2) 47(-1.2,-15.2) 48(-0.4,-15.2) 49(0.4,-15.2) 50(1.2,-15.2) 51(2,-15.2) 52(2.8,-15.2) 53(3.6,-15.2) 54(4.4,-15.2) 55(5.2,-15.2) 56(6,-15.2) 57(6.8,-15.2) 58(7.6,-15.2) 59(8.4,-15.2) 60(9.2,-15.2) 61(10,-15.2) 62(10.8,-15.2) 63(11.6,-15.2) 64(12.4,-15.2) 97(12.4,15.2) 98(11.6,15.2) 99(10.8,15.2) 100(10,15.2) 101(9.2,15.2) 102(8.4,15.2) 103(7.6,15.2) 104(6.8,15.2) 105(6,15.2) 106(5.2,15.2) 107(4.4,15.2) 108(3.6,15.2) 109(2.8,15.2) 110(2,15.2) 111(1.2,15.2) 112(0.4,15.2) 113(-0.4,15.2) 114(-1.2,15.2) 115(-2,15.2) 116(-2.8,15.2) 117(-3.6,15.2) 118(-4.4,15.2) 119(-5.2,15.2) 120(-6,15.2) 121(-6.8,15.2) 122(-7.6,15.2) 123(-8.4,15.2) 124(-9.2,15.2) 125(-10,15.2) 126(-10.8,15.2) 127(-11.6,15.2) 128(-12.4,15.2)
Top Overlay:
  circle w0.6: c-12.65,12.65 r0.3
  circle w0.25: c-15.2,13.25 r0.125
  lines w0.2: -13.65,-13.65 13.65,-13.65 13.65,13.65 -13.65,13.65 -13.65,-13.65
Mechanical 13:
  circle w0.1: c-13.1,13.1 r0.5
  lines w0.1: -14,-14 14,-14 14,14 -14,14 -14,-14
Mechanical 15:
  lines w0.1: -0.5,0 0.5,0 ; 0,-0.5 0,0.5 ; -16.8,-16.8 16.8,-16.8 16.8,16.8 -16.8,16.8 -16.8,-16.8
3D body: height 4.07, standoff 0, extent -14,-14 14,14

## PQFP128_N [mm] "128-Pin Plastic Quad Flat Pack 0.8 mm Pitch, IPC Medium Density"
height 4.07
pads (128):
  oval 1.95x0.55 smd: 1(-15.15,12.4) 2(-15.15,11.6) 3(-15.15,10.8) 4(-15.15,10) 5(-15.15,9.2) 6(-15.15,8.4) 7(-15.15,7.6) 8(-15.15,6.8) 9(-15.15,6) 10(-15.15,5.2) 11(-15.15,4.4) 12(-15.15,3.6) 13(-15.15,2.8) 14(-15.15,2) 15(-15.15,1.2) 16(-15.15,0.4) 17(-15.15,-0.4) 18(-15.15,-1.2) 19(-15.15,-2) 20(-15.15,-2.8) 21(-15.15,-3.6) 22(-15.15,-4.4) 23(-15.15,-5.2) 24(-15.15,-6) 25(-15.15,-6.8) 26(-15.15,-7.6) 27(-15.15,-8.4) 28(-15.15,-9.2) 29(-15.15,-10) 30(-15.15,-10.8) 31(-15.15,-11.6) 32(-15.15,-12.4) 65(15.15,-12.4) 66(15.15,-11.6) 67(15.15,-10.8) 68(15.15,-10) 69(15.15,-9.2) 70(15.15,-8.4) 71(15.15,-7.6) 72(15.15,-6.8) 73(15.15,-6) 74(15.15,-5.2) 75(15.15,-4.4) 76(15.15,-3.6) 77(15.15,-2.8) 78(15.15,-2) 79(15.15,-1.2) 80(15.15,-0.4) 81(15.15,0.4) 82(15.15,1.2) 83(15.15,2) 84(15.15,2.8) 85(15.15,3.6) 86(15.15,4.4) 87(15.15,5.2) 88(15.15,6) 89(15.15,6.8) 90(15.15,7.6) 91(15.15,8.4) 92(15.15,9.2) 93(15.15,10) 94(15.15,10.8) 95(15.15,11.6) 96(15.15,12.4)
  oval 0.55x1.95 smd: 33(-12.4,-15.15) 34(-11.6,-15.15) 35(-10.8,-15.15) 36(-10,-15.15) 37(-9.2,-15.15) 38(-8.4,-15.15) 39(-7.6,-15.15) 40(-6.8,-15.15) 41(-6,-15.15) 42(-5.2,-15.15) 43(-4.4,-15.15) 44(-3.6,-15.15) 45(-2.8,-15.15) 46(-2,-15.15) 47(-1.2,-15.15) 48(-0.4,-15.15) 49(0.4,-15.15) 50(1.2,-15.15) 51(2,-15.15) 52(2.8,-15.15) 53(3.6,-15.15) 54(4.4,-15.15) 55(5.2,-15.15) 56(6,-15.15) 57(6.8,-15.15) 58(7.6,-15.15) 59(8.4,-15.15) 60(9.2,-15.15) 61(10,-15.15) 62(10.8,-15.15) 63(11.6,-15.15) 64(12.4,-15.15) 97(12.4,15.15) 98(11.6,15.15) 99(10.8,15.15) 100(10,15.15) 101(9.2,15.15) 102(8.4,15.15) 103(7.6,15.15) 104(6.8,15.15) 105(6,15.15) 106(5.2,15.15) 107(4.4,15.15) 108(3.6,15.15) 109(2.8,15.15) 110(2,15.15) 111(1.2,15.15) 112(0.4,15.15) 113(-0.4,15.15) 114(-1.2,15.15) 115(-2,15.15) 116(-2.8,15.15) 117(-3.6,15.15) 118(-4.4,15.15) 119(-5.2,15.15) 120(-6,15.15) 121(-6.8,15.15) 122(-7.6,15.15) 123(-8.4,15.15) 124(-9.2,15.15) 125(-10,15.15) 126(-10.8,15.15) 127(-11.6,15.15) 128(-12.4,15.15)
Top Overlay:
  circle w0.6: c-12.75,12.75 r0.3
  circle w0.25: c-15.15,13.225 r0.125
  lines w0.2: -13.75,-13.75 13.75,-13.75 13.75,13.75 -13.75,13.75 -13.75,-13.75
Mechanical 13:
  circle w0.1: c-13.1,13.1 r0.5
  lines w0.1: -14,-14 14,-14 14,14 -14,14 -14,-14
Mechanical 15:
  lines w0.1: -0.5,0 0.5,0 ; 0,-0.5 0,0.5 ; -16.35,-16.35 16.35,-16.35 16.35,16.35 -16.35,16.35 -16.35,-16.35
3D body: height 4.07, standoff 0, extent -14,-14 14,14

## PQFP144_L [mm] "144-Pin Quad Flat Pack 0.65 mm Pitch, IPC High Density"
height 4.07
pads (144):
  oval 1.65x0.45 smd: 1(-15.1,11.375) 2(-15.1,10.725) 3(-15.1,10.075) 4(-15.1,9.425) 5(-15.1,8.775) 6(-15.1,8.125) 7(-15.1,7.475) 8(-15.1,6.825) 9(-15.1,6.175) 10(-15.1,5.525) 11(-15.1,4.875) 12(-15.1,4.225) 13(-15.1,3.575) 14(-15.1,2.925) 15(-15.1,2.275) 16(-15.1,1.625) 17(-15.1,0.975) 18(-15.1,0.325) 19(-15.1,-0.325) 20(-15.1,-0.975) 21(-15.1,-1.625) 22(-15.1,-2.275) 23(-15.1,-2.925) 24(-15.1,-3.575) 25(-15.1,-4.225) 26(-15.1,-4.875) 27(-15.1,-5.525) 28(-15.1,-6.175) 29(-15.1,-6.825) 30(-15.1,-7.475) 31(-15.1,-8.125) 32(-15.1,-8.775) 33(-15.1,-9.425) 34(-15.1,-10.075) 35(-15.1,-10.725) 36(-15.1,-11.375) 73(15.1,-11.375) 74(15.1,-10.725) 75(15.1,-10.075) 76(15.1,-9.425) 77(15.1,-8.775) 78(15.1,-8.125) 79(15.1,-7.475) 80(15.1,-6.825) 81(15.1,-6.175) 82(15.1,-5.525) 83(15.1,-4.875) 84(15.1,-4.225) 85(15.1,-3.575) 86(15.1,-2.925) 87(15.1,-2.275) 88(15.1,-1.625) 89(15.1,-0.975) 90(15.1,-0.325) 91(15.1,0.325) 92(15.1,0.975) 93(15.1,1.625) 94(15.1,2.275) 95(15.1,2.925) 96(15.1,3.575) 97(15.1,4.225) 98(15.1,4.875) 99(15.1,5.525) 100(15.1,6.175) 101(15.1,6.825) 102(15.1,7.475) 103(15.1,8.125) 104(15.1,8.775) 105(15.1,9.425) 106(15.1,10.075) 107(15.1,10.725) 108(15.1,11.375)
  oval 0.45x1.65 smd: 37(-11.375,-15.1) 38(-10.725,-15.1) 39(-10.075,-15.1) 40(-9.425,-15.1) 41(-8.775,-15.1) 42(-8.125,-15.1) 43(-7.475,-15.1) 44(-6.825,-15.1) 45(-6.175,-15.1) 46(-5.525,-15.1) 47(-4.875,-15.1) 48(-4.225,-15.1) 49(-3.575,-15.1) 50(-2.925,-15.1) 51(-2.275,-15.1) 52(-1.625,-15.1) 53(-0.975,-15.1) 54(-0.325,-15.1) 55(0.325,-15.1) 56(0.975,-15.1) 57(1.625,-15.1) 58(2.275,-15.1) 59(2.925,-15.1) 60(3.575,-15.1) 61(4.225,-15.1) 62(4.875,-15.1) 63(5.525,-15.1) 64(6.175,-15.1) 65(6.825,-15.1) 66(7.475,-15.1) 67(8.125,-15.1) 68(8.775,-15.1) 69(9.425,-15.1) 70(10.075,-15.1) 71(10.725,-15.1) 72(11.375,-15.1) 109(11.375,15.1) 110(10.725,15.1) 111(10.075,15.1) 112(9.425,15.1) 113(8.775,15.1) 114(8.125,15.1) 115(7.475,15.1) 116(6.825,15.1) 117(6.175,15.1) 118(5.525,15.1) 119(4.875,15.1) 120(4.225,15.1) 121(3.575,15.1) 122(2.925,15.1) 123(2.275,15.1) 124(1.625,15.1) 125(0.975,15.1) 126(0.325,15.1) 127(-0.325,15.1) 128(-0.975,15.1) 129(-1.625,15.1) 130(-2.275,15.1) 131(-2.925,15.1) 132(-3.575,15.1) 133(-4.225,15.1) 134(-4.875,15.1) 135(-5.525,15.1) 136(-6.175,15.1) 137(-6.825,15.1) 138(-7.475,15.1) 139(-8.125,15.1) 140(-8.775,15.1) 141(-9.425,15.1) 142(-10.075,15.1) 143(-10.725,15.1) 144(-11.375,15.1)
Top Overlay:
  circle w0.6: c-12.85,12.85 r0.3
  circle w0.25: c-15.1,12.15 r0.125
  lines w0.2: -13.85,-13.85 13.85,-13.85 13.85,13.85 -13.85,13.85 -13.85,-13.85
Mechanical 13:
  circle w0.1: c-13.1,13.1 r0.5
  lines w0.1: -14,-14 14,-14 14,14 -14,14 -14,-14
Mechanical 15:
  lines w0.1: -0.5,0 0.5,0 ; 0,-0.5 0,0.5 ; -16,-16 16,-16 16,16 -16,16 -16,-16
3D body: height 4.07, standoff 0, extent -14,-14 14,14

## PQFP144_M [mm] "144-Pin Quad Flat Pack 0.65 mm Pitch, IPC Low Density"
height 4.07
pads (144):
  oval 2.25x0.45 smd: 1(-15.2,11.375) 2(-15.2,10.725) 3(-15.2,10.075) 4(-15.2,9.425) 5(-15.2,8.775) 6(-15.2,8.125) 7(-15.2,7.475) 8(-15.2,6.825) 9(-15.2,6.175) 10(-15.2,5.525) 11(-15.2,4.875) 12(-15.2,4.225) 13(-15.2,3.575) 14(-15.2,2.925) 15(-15.2,2.275) 16(-15.2,1.625) 17(-15.2,0.975) 18(-15.2,0.325) 19(-15.2,-0.325) 20(-15.2,-0.975) 21(-15.2,-1.625) 22(-15.2,-2.275) 23(-15.2,-2.925) 24(-15.2,-3.575) 25(-15.2,-4.225) 26(-15.2,-4.875) 27(-15.2,-5.525) 28(-15.2,-6.175) 29(-15.2,-6.825) 30(-15.2,-7.475) 31(-15.2,-8.125) 32(-15.2,-8.775) 33(-15.2,-9.425) 34(-15.2,-10.075) 35(-15.2,-10.725) 36(-15.2,-11.375) 73(15.2,-11.375) 74(15.2,-10.725) 75(15.2,-10.075) 76(15.2,-9.425) 77(15.2,-8.775) 78(15.2,-8.125) 79(15.2,-7.475) 80(15.2,-6.825) 81(15.2,-6.175) 82(15.2,-5.525) 83(15.2,-4.875) 84(15.2,-4.225) 85(15.2,-3.575) 86(15.2,-2.925) 87(15.2,-2.275) 88(15.2,-1.625) 89(15.2,-0.975) 90(15.2,-0.325) 91(15.2,0.325) 92(15.2,0.975) 93(15.2,1.625) 94(15.2,2.275) 95(15.2,2.925) 96(15.2,3.575) 97(15.2,4.225) 98(15.2,4.875) 99(15.2,5.525) 100(15.2,6.175) 101(15.2,6.825) 102(15.2,7.475) 103(15.2,8.125) 104(15.2,8.775) 105(15.2,9.425) 106(15.2,10.075) 107(15.2,10.725) 108(15.2,11.375)
  oval 0.45x2.25 smd: 37(-11.375,-15.2) 38(-10.725,-15.2) 39(-10.075,-15.2) 40(-9.425,-15.2) 41(-8.775,-15.2) 42(-8.125,-15.2) 43(-7.475,-15.2) 44(-6.825,-15.2) 45(-6.175,-15.2) 46(-5.525,-15.2) 47(-4.875,-15.2) 48(-4.225,-15.2) 49(-3.575,-15.2) 50(-2.925,-15.2) 51(-2.275,-15.2) 52(-1.625,-15.2) 53(-0.975,-15.2) 54(-0.325,-15.2) 55(0.325,-15.2) 56(0.975,-15.2) 57(1.625,-15.2) 58(2.275,-15.2) 59(2.925,-15.2) 60(3.575,-15.2) 61(4.225,-15.2) 62(4.875,-15.2) 63(5.525,-15.2) 64(6.175,-15.2) 65(6.825,-15.2) 66(7.475,-15.2) 67(8.125,-15.2) 68(8.775,-15.2) 69(9.425,-15.2) 70(10.075,-15.2) 71(10.725,-15.2) 72(11.375,-15.2) 109(11.375,15.2) 110(10.725,15.2) 111(10.075,15.2) 112(9.425,15.2) 113(8.775,15.2) 114(8.125,15.2) 115(7.475,15.2) 116(6.825,15.2) 117(6.175,15.2) 118(5.525,15.2) 119(4.875,15.2) 120(4.225,15.2) 121(3.575,15.2) 122(2.925,15.2) 123(2.275,15.2) 124(1.625,15.2) 125(0.975,15.2) 126(0.325,15.2) 127(-0.325,15.2) 128(-0.975,15.2) 129(-1.625,15.2) 130(-2.275,15.2) 131(-2.925,15.2) 132(-3.575,15.2) 133(-4.225,15.2) 134(-4.875,15.2) 135(-5.525,15.2) 136(-6.175,15.2) 137(-6.825,15.2) 138(-7.475,15.2) 139(-8.125,15.2) 140(-8.775,15.2) 141(-9.425,15.2) 142(-10.075,15.2) 143(-10.725,15.2) 144(-11.375,15.2)
Top Overlay:
  circle w0.6: c-12.65,12.65 r0.3
  circle w0.25: c-15.2,12.15 r0.125
  lines w0.2: -13.65,-13.65 13.65,-13.65 13.65,13.65 -13.65,13.65 -13.65,-13.65
Mechanical 13:
  circle w0.1: c-13.1,13.1 r0.5
  lines w0.1: -14,-14 14,-14 14,14 -14,14 -14,-14
Mechanical 15:
  lines w0.1: -0.5,0 0.5,0 ; 0,-0.5 0,0.5 ; -16.8,-16.8 16.8,-16.8 16.8,16.8 -16.8,16.8 -16.8,-16.8
3D body: height 4.07, standoff 0, extent -14,-14 14,14